# Altium schematic symbol library LM35.SchLib: 1 symbol
Pins are listed as number, name and electrical type; pins without a type are passive.

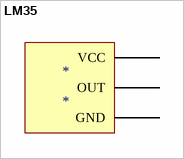
[diagram p0: symbol LM35]

## LM35
designator *
pins: 20 VCC (power), 21 OUT, 22 GND (power)